# Altium schematic symbol library Ferrite_Bead.Schlib: 1 symbol
Pins are listed as number, name and electrical type; pins without a type are passive.

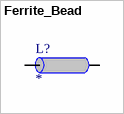
[diagram p0: symbol Ferrite_Bead]

## Ferrite_Bead
designator L?
600Ohm/100MHz, 0,7Ohm/DC, 200mA
pins: 1, 2